# Altium footprint library CeleronLib_Connect.PcbLib: 219 footprints (part 10 of 14)
Each footprint in its own frame and in the unit in brackets; x right, y up, seen from the top. Pads: shape width x height; smd on the part's side, far side on the other; paste and mask are expansions set on the pad; w line width, h text height; cw(c..) or ccw(c..) is an arc to the next point about the centre after c.
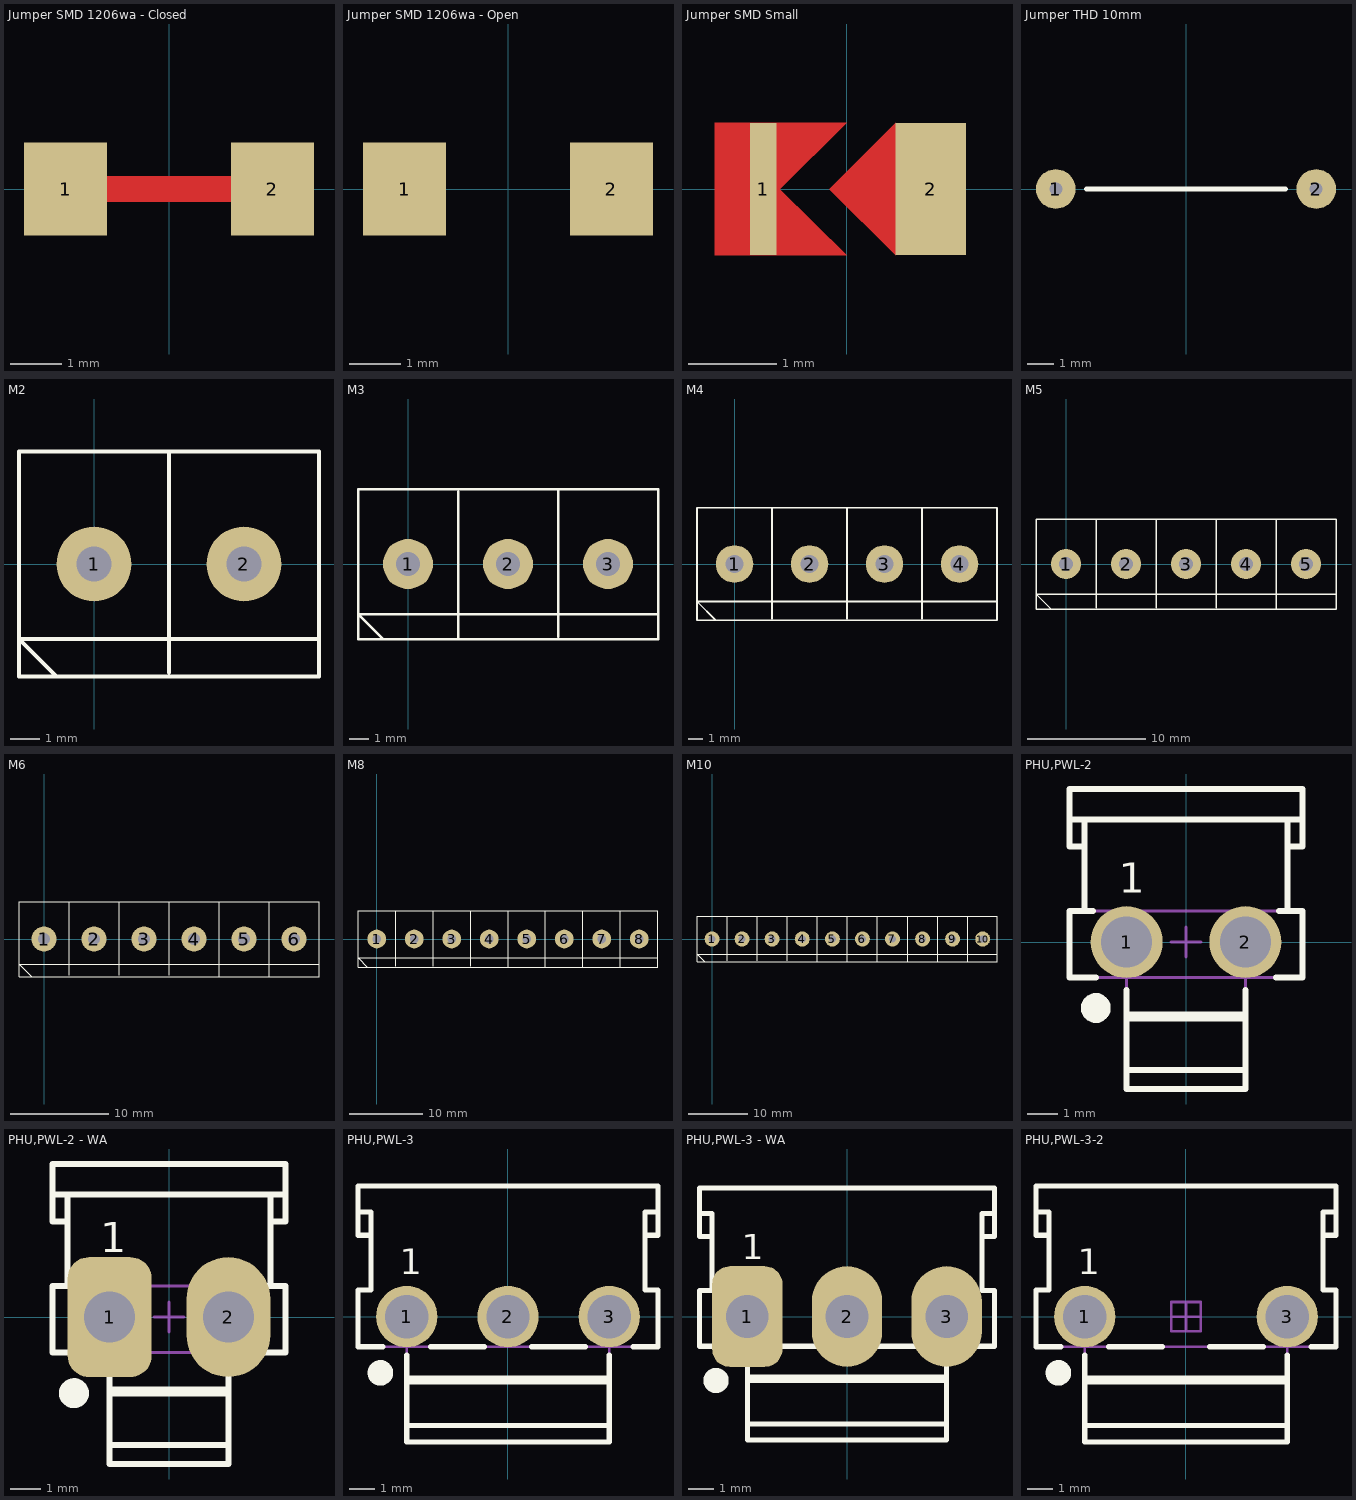
[diagram p9: the footprints below, top view; thin cyan lines are the x and y axes]

## Jumper SMD 1206wa - Closed [mm] "Jumper. Перемычка. Chip Resistor; Body 3.1 x 1.6 mm (LxW typ)"
height 3.2
pads (2):
  rect 1.6x1.8 smd: 1(-2,0) 2(2,0)
Top Layer:
  lines w0.5: -2,0 2,0

## Jumper SMD 1206wa - Open [mm] "Jumper. Перемычка. Chip Resistor; Body 3.1 x 1.6 mm (LxW typ)"
height 3.2
pads (2):
  rect 1.6x1.8 smd: 1(-2,0) 2(2,0)

## Jumper SMD Small [mm] "Jumper. Перемычка. Chip Resistor; Body 2.0 x 1.3 mm (LxW typ)"
height 0.5
pads (2):
  rect 0.3x1.5 smd: 1(-0.95,0)
  rect 0.8x1.5 smd: 2(0.95,0)
Top Layer:
  region: 0,0.75 -1.5,0.75 -1.5,-0.75 0,-0.75 -0.76,0
  region: 0.55,0.75 -0.2,0 0.55,-0.75
Top Solder:
  rectangle: -1.6,-0.87 1.45,0.87

## Jumper THD 10mm [mm] "Jumper  перемычка 10 мм"
height 0.254
pads (2):
  round 1.524 hole 0.5: 1(-5,0) 2(5,0)
Top Overlay:
  lines w0.2: -3.81,0 3.81,0

## M2 [mm]
pads (2):
  round 2.54 hole 1.2: 1(0,0) 2(5.08,0)
Top Overlay:
  lines w0.127: -1.27,-3.81 -2.54,-2.54 7.62,-2.54 ; 2.54,-3.683 2.54,3.81 ; -2.54,-3.81 -2.54,3.81 7.62,3.81 7.62,-3.81 -2.54,-3.81

## M3 [mm]
pads (3):
  round 2.54 hole 1.2: 1(0,0) 2(5.08,0) 3(10.16,0)
Top Overlay:
  lines w0.127: -1.27,-3.81 -2.54,-2.54 12.7,-2.54 ; 2.54,-3.81 2.54,3.683 ; 7.62,-3.683 7.62,3.81 ; -2.54,-3.81 -2.54,3.81 12.7,3.81 12.7,-3.81 -2.54,-3.81

## M4 [mm]
pads (4):
  round 2.54 hole 1.2: 1(0,0) 2(5.08,0) 3(10.16,0) 4(15.24,0)
Top Overlay:
  lines w0.127: -1.27,-3.81 -2.54,-2.54 17.78,-2.54 ; 2.54,-3.683 2.54,3.81 ; 7.62,-3.683 7.62,3.81 ; 12.7,-3.683 12.7,3.81 ; -2.54,-3.81 -2.54,3.81 17.78,3.81 17.78,-3.81 -2.54,-3.81

## M5 [mm]
pads (5):
  round 2.54 hole 1.2 unplated: 1(0,0) 2(5.08,0)
  round 2.54 hole 1.2: 3(10.16,0) 4(15.24,0) 5(20.32,0)
Top Overlay:
  lines w0.127: -1.27,-3.81 -2.54,-2.54 22.86,-2.54 ; 2.54,-3.683 2.54,3.81 ; 7.62,-3.683 7.62,3.81 ; 12.7,-3.683 12.7,3.81 ; 17.78,-3.81 17.78,3.81 ; -2.54,-3.81 -2.54,3.81 22.86,3.81 22.86,-3.81 -2.54,-3.81

## M6 [mm]
pads (6):
  round 2.54 hole 1.2: 1(0,0) 2(5.08,0) 3(10.16,0) 4(15.24,0) 5(20.32,0) 6(25.4,0)
Top Overlay:
  lines w0.127: -1.27,-3.81 -2.54,-2.54 27.94,-2.54 ; 2.54,-3.683 2.54,3.81 ; 7.62,-3.683 7.62,3.81 ; 12.7,-3.683 12.7,3.81 ; 17.78,-3.81 17.78,3.81 ; 22.86,-3.81 22.86,3.81 ; -2.54,-3.81 -2.54,3.81 27.94,3.81 27.94,-3.81 -2.54,-3.81

## M8 [mm]
pads (8):
  round 2.54 hole 1.2: 1(0,0) 2(5.08,0) 3(10.16,0) 4(15.24,0) 5(20.32,0) 6(25.4,0) 7(30.48,0) 8(35.56,0)
Top Overlay:
  lines w0.127: -1.27,-3.81 -2.54,-2.54 38.1,-2.54 ; 2.54,-3.683 2.54,3.81 ; 7.62,-3.683 7.62,3.81 ; 12.7,-3.683 12.7,3.81 ; 17.78,-3.81 17.78,3.81 ; 22.86,-3.81 22.86,3.81 ; 27.94,-3.81 27.94,3.81 ; 33.02,-3.81 33.02,3.81 ; -2.54,-3.81 38.1,-3.81 38.1,3.81 -2.54,3.81 -2.54,-3.81

## M10 [mm]
pads (10):
  round 2.54 hole 1.2: 1(0,0) 2(5.08,0) 3(10.16,0) 4(15.24,0) 5(20.32,0) 6(25.4,0) 7(30.48,0) 8(35.56,0) 9(40.64,0) 10(45.72,0)
Top Overlay:
  lines w0.127: -1.27,-3.81 -2.54,-2.54 48.133,-2.54 ; 2.54,-3.683 2.54,3.81 ; 7.62,-3.683 7.62,3.81 ; 12.7,-3.683 12.7,3.81 ; 17.78,-3.81 17.78,3.81 ; 22.86,-3.81 22.86,3.81 ; 27.94,-3.81 27.94,3.81 ; 33.02,-3.81 33.02,3.81 ; 38.1,-3.81 38.1,3.81 ; 43.18,-3.81 43.18,3.81 ; -2.54,-3.81 -2.54,3.81 48.133,3.81 48.133,-3.81 -2.54,-3.81

## PHU,PWL-2 [mm] "3.96mm (.156\") Pitch KK® Solid Header, Vertical, Friction Lock, 2 Circuits, Tin (Sn) Plating"
height 14.73
pads (2):
  round 2.4 hole 1.7: 1(-1.981,0) 2(1.981,0)
Top Overlay:
  circle w0.5: c-3.011,-2.2 r0.25
  lines w0.2: -3.886,4.089 3.886,4.089 ; -3.378,1.041 -3.378,4.089 ; -3.378,3.182 -3.886,3.182 -3.886,5.105 3.886,5.105 3.886,3.182 3.378,3.182 ; -3.1,1.041 -3.886,1.041 -3.886,-1.181 -3,-1.181 ; -1.981,-4.267 1.981,-4.267 ; -1.981,-2.548 1.981,-2.548 ; -1.981,-2.413 1.981,-2.413 ; -1.981,-1.6 -1.981,-4.902 1.981,-4.902 1.981,-1.6 ; 3,-1.181 3.886,-1.181 3.886,1.041 3.1,1.041 ; 3.378,1.041 3.378,4.089
  text "1" at -2.249,1.65 h1
Mechanical 8:
  lines w0.1: -2.481,0 -1.981,0 ; -1.981,-0.5 -1.981,0 ; -1.981,0.5 -1.981,0 ; -1.481,0 -1.981,0 ; -0.5,0 0,0 ; 0,-0.5 0,0 ; 0,0.5 0,0 ; 0.5,0 0,0 ; 1.481,0 1.981,0 ; 1.981,-0.5 1.981,0 ; 1.981,0.5 1.981,0 ; 2.481,0 1.981,0
Top Assy:
  lines w0.1: -3.886,4.089 3.886,4.089 ; -3.378,1.041 -3.378,4.089 ; -3.378,3.182 -3.886,3.182 -3.886,5.105 3.886,5.105 3.886,3.182 3.378,3.182 ; -1.981,-4.267 1.981,-4.267 ; -1.981,-2.548 1.981,-2.548 ; -1.981,-2.413 1.981,-2.413 ; -1.981,-1.181 -1.981,-4.902 1.981,-4.902 1.981,-1.181 ; 2.55,-0.571 2.55,0.571 ; 3.378,1.041 3.378,4.089 ; -3.886,-1.181 3.886,-1.181 3.886,1.041 -3.886,1.041 -3.886,-1.181
  text "1" at -2.249,1.65 h1
3D body: height 14.73, standoff -3.56, extent -3.886,-4.902 3.886,5.105

## PHU,PWL-2 - WA [mm] "3.96mm (.156\") Pitch KK® Solid Header, Vertical, Friction Lock, 2 Circuits, Tin (Sn) Plating"
height 14.73
pads (2):
  rrect50% 2.8x4 hole 1.7: 1(-1.981,0)
  oval 2.8x4 hole 1.7: 2(1.981,0)
Top Overlay:
  circle w0.5: c-3.171,-2.54 r0.25
  lines w0.2: -3.886,4.089 3.886,4.089 ; -3.378,1.041 -3.378,4.089 ; -3.378,3.182 -3.886,3.182 -3.886,5.105 3.886,5.105 3.886,3.182 3.378,3.182 ; -3.1,1.041 -3.886,1.041 -3.886,-1.181 -3,-1.181 ; -1.981,-4.267 1.981,-4.267 ; -1.981,-2.548 1.981,-2.548 ; -1.981,-2.413 1.981,-2.413 ; -1.981,-1.6 -1.981,-4.902 1.981,-4.902 1.981,-1.6 ; 3,-1.181 3.886,-1.181 3.886,1.041 3.1,1.041 ; 3.378,1.041 3.378,4.089
  text "1" at -2.286,2.159 h1
Mechanical 8:
  lines w0.1: -2.481,0 -1.981,0 ; -1.981,-0.5 -1.981,0 ; -1.981,0.5 -1.981,0 ; -1.481,0 -1.981,0 ; -0.5,0 0,0 ; 0,-0.5 0,0 ; 0,0.5 0,0 ; 0.5,0 0,0 ; 1.481,0 1.981,0 ; 1.981,-0.5 1.981,0 ; 1.981,0.5 1.981,0 ; 2.481,0 1.981,0
Top Assy:
  lines w0.1: -3.886,4.089 3.886,4.089 ; -3.378,1.041 -3.378,4.089 ; -3.378,3.182 -3.886,3.182 -3.886,5.105 3.886,5.105 3.886,3.182 3.378,3.182 ; -1.981,-4.267 1.981,-4.267 ; -1.981,-2.548 1.981,-2.548 ; -1.981,-2.413 1.981,-2.413 ; -1.981,-1.181 -1.981,-4.902 1.981,-4.902 1.981,-1.181 ; 2.55,-0.571 2.55,0.571 ; 3.378,1.041 3.378,4.089 ; -3.886,-1.181 3.886,-1.181 3.886,1.041 -3.886,1.041 -3.886,-1.181
  text "1" at -2.249,1.65 h1
3D body: height 14.73, standoff -3.56, extent -3.886,-4.902 3.886,5.105

## PHU,PWL-3 [mm] "3.96mm (.156\") Pitch KK® Solid Header, Vertical, Friction Lock, 3 Circuits, Tin (Sn) Plating"
height 14.73
pads (3):
  round 2.4 hole 1.7: 1(-3.96,0) 2(0,0) 3(3.96,0)
Top Overlay:
  circle w0.5: c-4.99,-2.2 r0.25
  lines w0.2: -5.864,4.087 -5.356,4.087 -5.356,1.041 -5.864,1.041 -5.864,-1.18 -4.886,-1.18 ; -5.356,3.18 -5.864,3.18 -5.864,5.102 5.864,5.102 5.864,3.18 5.356,3.18 ; -3.96,-4.265 3.96,-4.265 ; -3.96,-2.546 3.96,-2.546 ; -3.96,-2.412 3.96,-2.412 ; -3.96,-1.5 -3.96,-4.899 3.96,-4.899 3.96,-1.5 ; -3.034,-1.18 -0.926,-1.18 ; 0.926,-1.18 3.034,-1.18 ; 4.886,-1.18 5.864,-1.18 5.864,1.041 5.356,1.041 5.356,4.087 5.864,4.087
  text "1" at -4.228,1.65 h1
Mechanical 8:
  lines w0.1: -4.46,0 -3.96,0 ; -3.96,-0.5 -3.96,0 ; -3.96,0.5 -3.96,0 ; -3.46,0 -3.96,0 ; -0.5,0 0,0 ; 0,-0.5 0,0 ; 0,0.5 0,0 ; 0.5,0 0,0 ; 3.46,0 3.96,0 ; 3.96,-0.5 3.96,0 ; 3.96,0.5 3.96,0 ; 4.46,0 3.96,0
Top Assy:
  lines w0.1: -5.864,4.087 -5.356,4.087 -5.356,1.041 -5.864,1.041 -5.864,-1.18 5.864,-1.18 5.864,1.041 5.356,1.041 5.356,4.087 5.864,4.087 ; -5.356,3.18 -5.864,3.18 -5.864,5.102 5.864,5.102 5.864,3.18 5.356,3.18 ; -3.96,-4.265 3.96,-4.265 ; -3.96,-2.546 3.96,-2.546 ; -3.96,-2.412 3.96,-2.412 ; -3.96,-1.18 -3.96,-4.899 3.96,-4.899 3.96,-1.18 ; -4.531,-0.571 -4.531,0.571 -3.389,0.571 -3.389,-0.571 -4.531,-0.571 ; -0.571,-0.571 -0.571,0.571 0.571,0.571 0.571,-0.571 -0.571,-0.571 ; 3.389,-0.571 3.389,0.571 4.531,0.571 4.531,-0.571 3.389,-0.571
  text "1" at -4.228,1.65 h1
3D body: height 14.73, standoff -3.56, extent -5.864,-4.899 5.871,5.108

## PHU,PWL-3 - WA [mm] "3.96mm (.156\") Pitch KK® Solid Header, Vertical, Friction Lock, 3 Circuits, Tin (Sn) Plating"
height 14.73
pads (3):
  rrect50% 2.8x4 hole 1.7: 1(-3.96,0)
  oval 2.8x4 hole 1.7: 2(0,0) 3(3.96,0)
Top Overlay:
  circle w0.5: c-5.203,-2.54 r0.25
  lines w0.2: -5.864,4.087 -5.356,4.087 -5.356,1.041 -5.864,1.041 -5.864,-1.18 -4.886,-1.18 ; -5.356,3.18 -5.864,3.18 -5.864,5.102 5.864,5.102 5.864,3.18 5.356,3.18 ; -3.96,-4.265 3.96,-4.265 ; -3.96,-2.546 3.96,-2.546 ; -3.96,-2.412 3.96,-2.412 ; -3.96,-1.5 -3.96,-4.899 3.96,-4.899 3.96,-1.5 ; -3.034,-1.18 -0.926,-1.18 ; 0.926,-1.18 3.034,-1.18 ; 4.886,-1.18 5.864,-1.18 5.864,1.041 5.356,1.041 5.356,4.087 5.864,4.087
  text "1" at -4.191,2.286 h1
Mechanical 8:
  lines w0.1: -4.46,0 -3.96,0 ; -3.96,-0.5 -3.96,0 ; -3.96,0.5 -3.96,0 ; -3.46,0 -3.96,0 ; -0.5,0 0,0 ; 0,-0.5 0,0 ; 0,0.5 0,0 ; 0.5,0 0,0 ; 3.46,0 3.96,0 ; 3.96,-0.5 3.96,0 ; 3.96,0.5 3.96,0 ; 4.46,0 3.96,0
Top Assy:
  lines w0.1: -5.864,4.087 -5.356,4.087 -5.356,1.041 -5.864,1.041 -5.864,-1.18 5.864,-1.18 5.864,1.041 5.356,1.041 5.356,4.087 5.864,4.087 ; -5.356,3.18 -5.864,3.18 -5.864,5.102 5.864,5.102 5.864,3.18 5.356,3.18 ; -3.96,-4.265 3.96,-4.265 ; -3.96,-2.546 3.96,-2.546 ; -3.96,-2.412 3.96,-2.412 ; -3.96,-1.18 -3.96,-4.899 3.96,-4.899 3.96,-1.18 ; -4.531,-0.571 -4.531,0.571 -3.389,0.571 -3.389,-0.571 -4.531,-0.571 ; -0.571,-0.571 -0.571,0.571 0.571,0.571 0.571,-0.571 -0.571,-0.571 ; 3.389,-0.571 3.389,0.571 4.531,0.571 4.531,-0.571 3.389,-0.571
  text "1" at -4.228,1.65 h1
3D body: height 14.73, standoff -3.56, extent -5.864,-4.899 5.871,5.108

## PHU,PWL-3-2 [mm] "3.96mm (.156\") Pitch KK® Solid Header, Vertical, Friction Lock, 3 Circuits Without Contact Number 2, Tin (Sn) Plating"
height 14.73
pads (2):
  round 2.4 hole 1.7: 1(-3.96,0) 3(3.96,0)
Top Overlay:
  circle w0.5: c-4.99,-2.2 r0.25
  lines w0.2: -5.864,4.087 -5.356,4.087 -5.356,1.041 -5.864,1.041 -5.864,-1.18 -4.886,-1.18 ; -5.356,3.18 -5.864,3.18 -5.864,5.102 5.864,5.102 5.864,3.18 5.356,3.18 ; -3.96,-4.265 3.96,-4.265 ; -3.96,-2.546 3.96,-2.546 ; -3.96,-2.412 3.96,-2.412 ; -3.96,-1.5 -3.96,-4.899 3.96,-4.899 3.96,-1.5 ; -3.034,-1.18 -0.926,-1.18 ; 0.926,-1.18 3.034,-1.18 ; 4.886,-1.18 5.864,-1.18 5.864,1.041 5.356,1.041 5.356,4.087 5.864,4.087
  text "1" at -4.228,1.65 h1
Mechanical 8:
  lines w0.1: -4.46,0 -3.96,0 ; -3.96,-0.5 -3.96,0 ; -3.96,0.5 -3.96,0 ; -3.46,0 -3.96,0 ; -0.5,0 0,0 ; 0,-0.5 0,0 ; 0,0.5 0,0 ; 0.5,0 0,0 ; 3.46,0 3.96,0 ; 3.96,-0.5 3.96,0 ; 3.96,0.5 3.96,0 ; 4.46,0 3.96,0
Top Assy:
  lines w0.1: -5.864,4.087 -5.356,4.087 -5.356,1.041 -5.864,1.041 -5.864,-1.18 5.864,-1.18 5.864,1.041 5.356,1.041 5.356,4.087 5.864,4.087 ; -5.356,3.18 -5.864,3.18 -5.864,5.102 5.864,5.102 5.864,3.18 5.356,3.18 ; -3.96,-4.265 3.96,-4.265 ; -3.96,-2.546 3.96,-2.546 ; -3.96,-2.412 3.96,-2.412 ; -3.96,-1.18 -3.96,-4.899 3.96,-4.899 3.96,-1.18 ; -4.531,-0.571 -3.389,-0.571 -3.389,0.571 -4.531,0.571 -4.531,-0.571 ; -0.571,-0.571 0.571,-0.571 0.571,0.571 -0.571,0.571 -0.571,-0.571 ; 3.389,-0.571 4.531,-0.571 4.531,0.571 3.389,0.571 3.389,-0.571
  text "1" at -4.228,1.65 h1
3D body: height 14.22, standoff -4.06, extent -5.867,-4.902 5.868,5.106